# Altium footprint library DiodesIncorporated.PcbLib: 1 footprints
Each footprint in its own frame and in the unit in brackets; x right, y up, seen from the top. Pads: shape width x height; smd on the part's side, far side on the other; paste and mask are expansions set on the pad; w line width, h text height; cw(c..) or ccw(c..) is an arc to the next point about the centre after c.
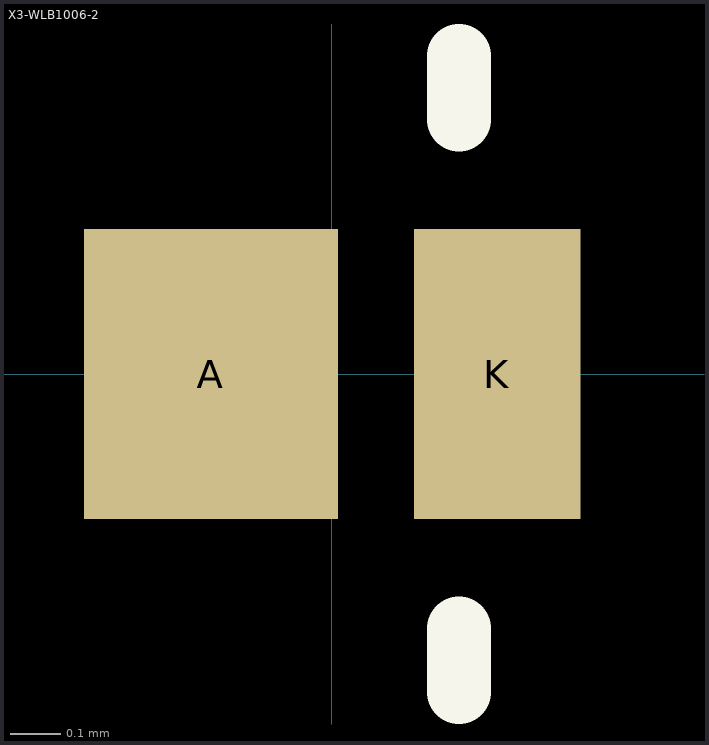
[diagram p0: the footprint, top view; thin cyan lines are the x and y axes]

## X3-WLB1006-2 [mil]
pads (2):
  rect 19.96x22.8 smd: A(-9.5,0)
  rect 13.07x22.8 smd: K(13,0)
Top Overlay:
  lines w5: 10,-25 10,-20 ; 10,20 10,25
3D body: height 10, standoff 0, extent 0,0 0,0
3D body: height 11, standoff 0, extent -20,-12 20,12